# EAGLE library part CON_72 (library fc-nes)
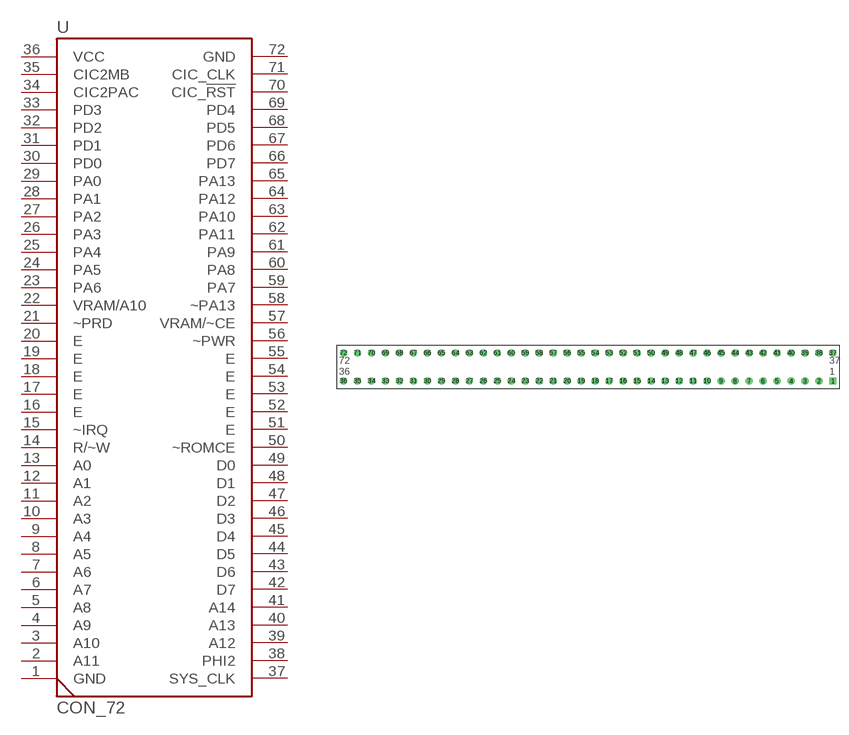
[diagram p1: symbol with the pads of CON_72; footprint CON_72]

Designator prefix -

## CON_72  [CON_72]
1  GND  sup
2  A11  out
3  A10  out
4  A9  out
5  A8  out
6  A7  out
7  A6  out
8  A5  out
9  A4  out
10  A3  out
11  A2  out
12  A1  out
13  A0  out
14  R/~W  out
15  ~IRQ
16  E  sup
17  E  sup
18  E  sup
19  E  sup
20  E  sup
21  ~PRD  out
22  VRAM/A10  in
23  PA6  out
24  PA5  out
25  PA4  out
26  PA3  out
27  PA2  out
28  PA1  out
29  PA0  out
30  PD0
31  PD1
32  PD2
33  PD3
34  CIC2PAC  sup
35  CIC2MB  sup
36  VCC  sup
37  SYS_CLK  sup
38  PHI2  out
39  A12  out
40  A13  out
41  A14  out
42  D7  out
43  D6  out
44  D5  out
45  D4  out
46  D3  out
47  D2  out
48  D1  out
49  D0  out
50  ~ROMCE  out
51  E  sup
52  E  sup
53  E  sup
54  E  sup
55  E  sup
56  ~PWR  out
57  VRAM/~CE  in
58  ~PA13  out
59  PA7  out
60  PA8  out
61  PA9  out
62  PA11  out
63  PA10  out
64  PA12  out
65  PA13  out
66  PD7
67  PD6
68  PD5
69  PD4
70  CIC_!RST  sup
71  CIC_CLK  sup
72  GND  sup

## Footprint CON_72 (pad centres in mm)
drill 0.8 square: 1 44.45,-2.54
drill 0.8: 2 41.91,-2.54; 3 39.37,-2.54; 4 36.83,-2.54; 5 34.29,-2.54; 6 31.75,-2.54; 7 29.21,-2.54; 8 26.67,-2.54; 9 24.13,-2.54; 10 21.59,-2.54; 11 19.05,-2.54; 12 16.51,-2.54; 13 13.97,-2.54; 14 11.43,-2.54; 15 8.89,-2.54; 16 6.35,-2.54; 17 3.81,-2.54; 18 1.27,-2.54; 19 -1.27,-2.54; 20 -3.81,-2.54; 21 -6.35,-2.54; 22 -8.89,-2.54; 23 -11.43,-2.54; 24 -13.97,-2.54; 25 -16.51,-2.54; 26 -19.05,-2.54; 27 -21.59,-2.54; 28 -24.13,-2.54; 29 -26.67,-2.54; 30 -29.21,-2.54; 31 -31.75,-2.54; 32 -34.29,-2.54; 33 -36.83,-2.54; 34 -39.37,-2.54; 35 -41.91,-2.54; 36 -44.45,-2.54; 37 44.45,2.54; 38 41.91,2.54; 39 39.37,2.54; 40 36.83,2.54; 41 34.29,2.54; 42 31.75,2.54; 43 29.21,2.54; 44 26.67,2.54; 45 24.13,2.54; 46 21.59,2.54; 47 19.05,2.54; 48 16.51,2.54; 49 13.97,2.54; 50 11.43,2.54; 51 8.89,2.54; 52 6.35,2.54; 53 3.81,2.54; 54 1.27,2.54; 55 -1.27,2.54; 56 -3.81,2.54; 57 -6.35,2.54; 58 -8.89,2.54; 59 -11.43,2.54; 60 -13.97,2.54; 61 -16.51,2.54; 62 -19.05,2.54; 63 -21.59,2.54; 64 -24.13,2.54; 65 -26.67,2.54; 66 -29.21,2.54; 67 -31.75,2.54; 68 -34.29,2.54; 69 -36.83,2.54; 70 -39.37,2.54; 71 -41.91,2.54; 72 -44.45,2.54